# EAGLE library part LT1963EQ (library fcounter)
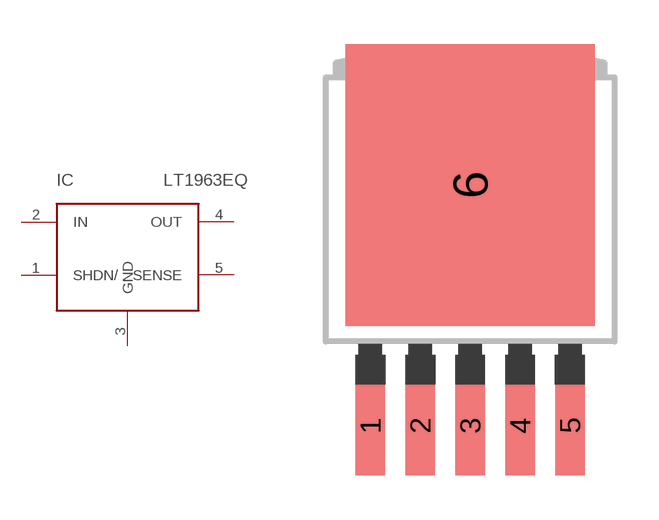
[diagram p10: symbol with the pads of Q5DD; footprint Q5DD]

Designator prefix IC

## LT1963EQ  [Q5DD]
1  SHDN/  in
2  IN  in
3  GND  pwr
4  OUT  out
5  SENSE  in
6  GND  pwr

## Footprint Q5DD (pad centres in mm)
smd 1 x 3.4: 1 -3.4,-7.875; 2 -1.7,-7.875; 3 0,-7.875; 4 1.7,-7.875; 5 3.4,-7.875
smd 8.5 x 9.6: 6 0,0.325